# Altium footprint library C1F250.PcbLib: 3 footprints
Each footprint in its own frame and in the unit in brackets; x right, y up, seen from the top. Pads: shape width x height; smd on the part's side, far side on the other; paste and mask are expansions set on the pad; w line width, h text height; cw(c..) or ccw(c..) is an arc to the next point about the centre after c.
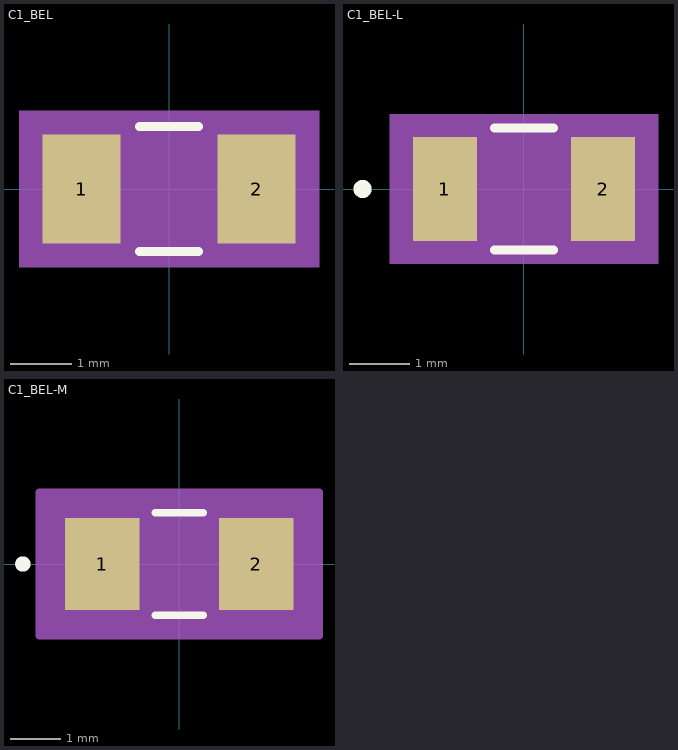
[diagram p0: the footprints below, top view; thin cyan lines are the x and y axes]

## C1_BEL [mil]
pads (2):
  rect 50x70 smd paste+0 mask+0: 1(-56,0) 2(56,0)
Top Overlay:
  lines w6: -18.89,-40 18.89,-40 ; -18.89,40 18.89,40
Mechanical 5:
  region: 96,-50 -96,-50 -96,50 96,50
Mechanical 13:
  circle w0: c-57,0 r0
  lines w1: -67,-35 -67,35 ; -67,-35 -31,-35 -31,35 -67,35 ; -67,-35 67,-35 ; -67,-35 -67,35 ; -67,35 67,35 ; 67,-35 31,-35 31,35 67,35 ; 67,-35 67,35 ; 67,-35 67,35
Mechanical 15:
  region: 91,-45 -91,-45 -91,45 91,45
  lines w6: -91,-45 -91,45 91,45 91,-45 -91,-45
3D body "C1_BEL.step": height 30.98, standoff 0, extent -67.01,-35 67.01,35

## C1_BEL-L [mil]
pads (2):
  rect 42x68 smd paste+0 mask+0: 1(-52,0) 2(52,0)
Top Overlay:
  circle w6: c-106,0 r3
  lines w6: -19.35,-40 19.35,-40 ; -19.35,40 19.35,40
Mechanical 5:
  region: 88,-49 -88,-49 -88,49 88,49
Mechanical 13:
  circle w0: c-57,0 r3
  lines w1: -67,-35 -67,35 ; -67,-35 -31,-35 -31,35 -67,35 ; -67,-35 67,-35 ; -67,-35 -67,35 ; -67,35 67,35 ; 67,-35 31,-35 31,35 67,35 ; 67,-35 67,35 ; 67,-35 67,35
Mechanical 15:
  region: 77,-38 -77,-38 -77,38 77,38
  lines w6: -77,-38 -77,38 77,38 77,-38 -77,-38
3D body "C1_BEL.step": height 30.98, standoff 0, extent -67.01,-35 67.01,35

## C1_BEL-M [mil]
pads (2):
  rect 58x72 smd paste+0 mask+0: 1(-60,0) 2(60,0)
Top Overlay:
  circle w6: c-122,0 r3
  lines w6: -18.53,-40 18.53,-40 ; -18.53,40 18.53,40
Mechanical 5:
  region: 104,-51 -104,-51 -104,51 104,51
Mechanical 13:
  circle w0: c-57,0 r3
  lines w1: -67,-35 -67,35 ; -67,-35 -31,-35 -31,35 -67,35 ; -67,-35 67,-35 ; -67,-35 -67,35 ; -67,35 67,35 ; 67,-35 31,-35 31,35 67,35 ; 67,-35 67,35 ; 67,-35 67,35
Mechanical 15:
  region: 109,-56 -109,-56 -109,56 109,56
  lines w6: -109,-56 -109,56 109,56 109,-56 -109,-56
3D body "C1_BEL.step": height 30.98, standoff 0, extent -67.01,-35 67.01,35